# Altium schematic symbol library connectors.SchLib: 6 symbols
Pins are listed as number, name and electrical type; pins without a type are passive.

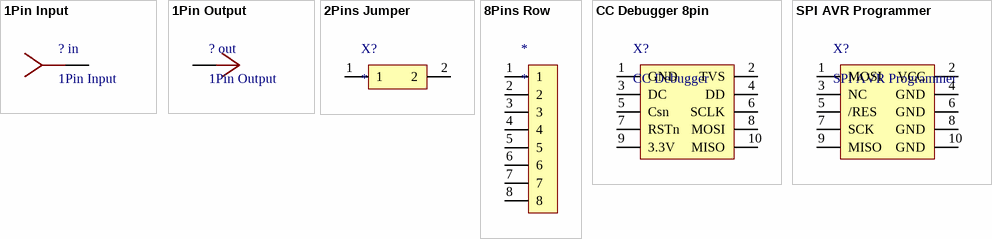
[diagram p0: symbols 1Pin Input to SPI AVR Programmer]

## 1Pin Input
designator ? in
Single Pin or Hole
footprint 1Pin 1.5x0.7 (Single Pin or Hole)
pins: 1

## 1Pin Output
designator ? out
Single Pin or Hole
footprint 1Pin 1.5x0.7 (Single Pin or Hole)
pins: 1

## 2Pins Jumper
designator X?
footprint 2Pins Jumper
pins: 1, 2

## 8Pins Row
designator *
footprint 8Pins Row
pins: 1, 2, 3, 4, 5, 6, 7, 8

## CC Debugger 8pin
designator X?, comment CC Debugger
PLD-80
footprint SPI AVR Programmer
pins: 1 GND, 2 TVS, 3 DC, 4 DD, 5 Csn, 6 SCLK, 7 RSTn, 8 MOSI, 9 3.3V, 10 MISO

## SPI AVR Programmer
designator X?
PLD-80
footprint SPI AVR Programmer
pins: 1 MOSI, 2 VCC, 3 NC, 4 GND, 5 /RES, 6 GND, 7 SCK, 8 GND, 9 MISO, 10 GND